# Altium footprint library 28Pins_Project_V1I1.PcbLib: 27 footprints (part 2 of 2)
Each footprint in its own frame and in the unit in brackets; x right, y up, seen from the top. Pads: shape width x height; smd on the part's side, far side on the other; paste and mask are expansions set on the pad; w line width, h text height; cw(c..) or ccw(c..) is an arc to the next point about the centre after c.
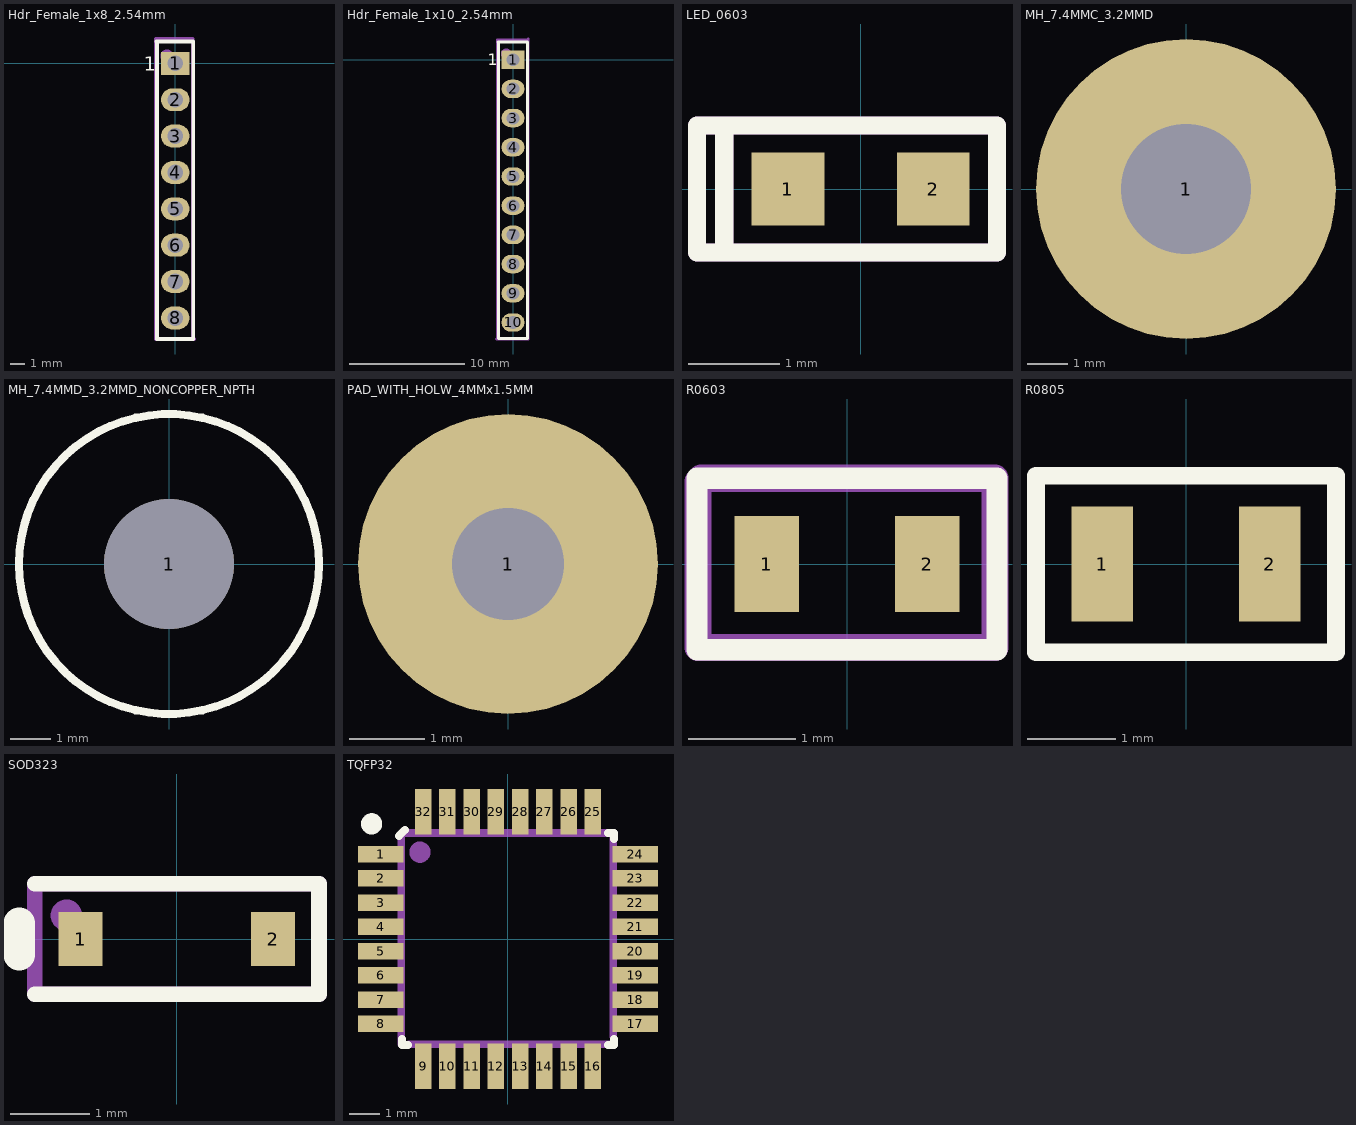
[diagram p1: the footprints below, top view; thin cyan lines are the x and y axes]

## Hdr_Female_1x8_2.54mm [mm]
pads (8):
  rect 2x1.6 hole 1.1: 1(0,0)
  oval 2x1.6 hole 1.1: 2(0,-2.54) 3(0,-5.08) 4(0,-7.62) 5(0,-10.16) 6(0,-12.7) 7(0,-15.24) 8(0,-17.78)
Top Overlay:
  lines w0.254: -1.306,1.525 -0.669,1.525 0.606,1.525 1.244,1.525 1.244,-19.25 -1.275,-19.25 -1.275,1.5
  text "1" at -2.2,-0.5 h1
Mechanical 1:
  circle w0.5: c-0.597,0.517 r0.2
  lines w0.254: -1.375,-19.25 1.325,-19.25 1.225,-19.15 1.225,1.7 -1.375,1.7 -1.375,-19.25
  text ".Designator" at 0.363,-14.396 h1.52
3D body "M20-7820842.stp": height 8.4, standoff -3.27, extent -1.27,-19.05 1.27,1.27

## Hdr_Female_1x10_2.54mm [mm]
pads (10):
  rect 2x1.6 hole 1.1: 1(0,0)
  oval 2x1.6 hole 1.1: 2(0,-2.54) 3(0,-5.08) 4(0,-7.62) 5(0,-10.16) 6(0,-12.7) 7(0,-15.24) 8(0,-17.78) 9(0,-20.32) 10(0,-22.86)
Top Overlay:
  lines w0.254: -1.306,1.525 -0.669,1.525 0.606,1.525 1.244,1.525 1.244,-24.25 ; -1.275,1.5 -1.275,-24.25 1.25,-24.25
  text "1" at -2.2,-0.5 h1
Mechanical 1:
  circle w0.5: c-0.597,0.517 r0.2
  lines w0.254: -1.425,-24.3 -1.375,-24.25 -1.375,-23.65 -1.375,1.7 1.225,1.7 1.325,1.8 1.325,-18 1.325,-23.95 1.325,-24.3 -1.425,-24.3
  text ".Designator" at 0.363,-14.396 h1.52
3D body "1x10.STEP": height 8.51, standoff -9.13, extent -1.29,-24.025 1.25,1.375

## LED_0603 [mm]
pads (2):
  rect 0.8x0.8 smd: 1(-0.8,0) 2(0.8,0)
Top Overlay:
  lines w0.2: -1.5,-0.7 -1.8,-0.7 -1.8,0.7 -1.5,0.7 ; -1.5,-0.7 1.5,-0.7 1.5,0.7 -1.5,0.7 ; -1.5,-0.7 -1.5,0.7
Mechanical 1:
  lines w0.2: -1.497,-0.7 -1.497,0.697 ; -1.8,-0.7 1.5,-0.7 1.5,0.7 -1.8,0.7 -1.8,-0.7
  text ".Desigantor" at -1.1,-0.2 h0.6
3D body "User Library-LED SMD0603.step": height 0.68, standoff 0, extent -0.825,-0.36 0.825,0.365

## MH_7.4MMC_3.2MMD [mm]
pads (1):
  round 7.4 hole 3.2: 1(0,0)

## MH_7.4MMD_3.2MMD_NONCOPPER_NPTH [mm]
pads (1):
  round 3.2 hole 3.2 unplated: 1(0,0)
Top Overlay:
  circle w0.2: c0,0 r3.7

## PAD_WITH_HOLW_4MMx1.5MM [mm]
pads (1):
  round 4 hole 1.5: 1(0,0)

## PCBComponent_1 [mm]

## R0603 [mm]
pads (2):
  rect 0.6x0.9 smd: 1(-0.75,0) 2(0.75,0)
Top Overlay:
  lines w0.2: -1.4,-0.8 1.4,-0.8 1.4,0.8 -1.4,0.8 -1.4,-0.8
Mechanical 1:
  lines w0.254: -1.39,-0.78 -1.39,0.01 -1.39,0.77 -1.36,0.8 1.38,0.8 1.38,-0.78 -1.39,-0.78
  text ".Designator" at -0.91,-0.25 h0.6
3D body "R0603.step": height 0.8, standoff 0, extent -0.79,-0.41 0.81,0.43

## R0805 [mm]
pads (2):
  rect 0.7x1.3 smd: 1(-0.95,0) 2(0.95,0)
Top Overlay:
  lines w0.2: -1.7,0.975 -1.7,-0.025 -1.7,-1 1.7,-1 1.7,1 -1.7,1
3D body "User Library-Chip Resistor2.step": height 0.71, standoff 0.01, extent -1,-0.6 1,0.6

## SOD323 [mil]
pads (2):
  rect 22x27 smd: 1(-48,0) 2(48,0)
Top Overlay:
  lines w7.87: -70.87,-27.56 70.87,-27.56 70.87,27.56 -70.87,27.56
  lines w15.75: -78.74,-7.87 -78.74,7.87
Mechanical 1:
  circle w7.87: c-55.12,11.81 r3.94
  lines w7.87: -70.87,-27.56 70.87,-27.56 70.87,27.56 -70.87,27.56 -70.87,-27.56
3D body "User Library-SOD-323.step": height 39.97, standoff -3.44, extent -51.17,-26.57 51.19,26.58

## TQFP32 [mm]
pads (32):
  rect 1.5x0.55 smd mask+0.06: 1(-4.2,2.8) 2(-4.2,2) 3(-4.2,1.2) 4(-4.2,0.4) 5(-4.2,-0.4) 6(-4.2,-1.2) 7(-4.2,-2) 8(-4.2,-2.8) 17(4.2,-2.8) 18(4.2,-2) 19(4.2,-1.2) 20(4.2,-0.4) 21(4.2,0.4) 22(4.2,1.2) 23(4.2,2) 24(4.2,2.8)
  rect 0.55x1.5 smd mask+0.06: 9(-2.8,-4.2) 10(-2,-4.2) 11(-1.2,-4.2) 12(-0.4,-4.2) 13(0.4,-4.2) 14(1.2,-4.2) 15(2,-4.2) 16(2.8,-4.2) 25(2.8,4.2) 26(2,4.2) 27(1.2,4.2) 28(0.4,4.2) 29(-0.4,4.2) 30(-1.2,4.2) 31(-2,4.2) 32(-2.8,4.2)
Top Overlay:
  circle w0.5: c-4.5,3.8 r0.1
  lines w0.254: -3.6,3.4 -3.4,3.6 ; -3.5,-3.3 -3.5,-3.5 -3.3,-3.5 ; 3.3,-3.5 3.5,-3.5 3.5,-3.3 ; 3.3,3.5 3.5,3.5 3.5,3.3
Mechanical 1:
  circle w0.5: c-2.905,2.865 r0.1
  lines w0.254: -3.525,-3.475 -3.525,3.375 ; -3.375,3.5 3.225,3.5 ; -3.275,-3.475 3.4,-3.475 ; 3.475,-3.225 3.475,3.5
  text ".Designator" at -1.775,-0.675 h1.8
3D body "User Library-tqfp32.step": height 1.1, standoff -0.1, extent -4.549,-4.574 4.65,4.624